# Altium schematic symbol library pth-contacts.SchLib: 3 symbols
Pins are listed as number, name and electrical type; pins without a type are passive.

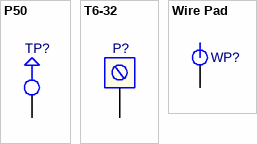
[diagram p0: symbols P50 to Wire Pad]

## P50
designator TP?, comment 000000  (value not drawn)
Discrete Test Probe; Value: P50-E; PN: 000000; Package: PTH; MF: *; ExtraInfo: *
footprint P50-E (Test Probe 0.68mm)
pins: 1

## T6-32
designator P?, comment 000000  (value not drawn)
Terminal Screw 6-32; Value: T6-32; PN: 000000; Package: PTH; MF: *; ExtraInfo: *
footprint TERM 6-32 (Screw Terminal 6 pins)
pins: 1

## Wire Pad
designator WP?, comment 000000  (value not drawn)
Solder Solder Pad; Value: P50-E; PN: 000000; Package: PTH; MF: *; ExtraInfo: *
footprint Pad-1.5mm (Wire Solder Pad 1.5mm)
pins: 1